# Altium footprint library buckconverter_pcb_lib.PcbLib: 8 footprints
Each footprint in its own frame and in the unit in brackets; x right, y up, seen from the top. Pads: shape width x height; smd on the part's side, far side on the other; paste and mask are expansions set on the pad; w line width, h text height; cw(c..) or ccw(c..) is an arc to the next point about the centre after c.
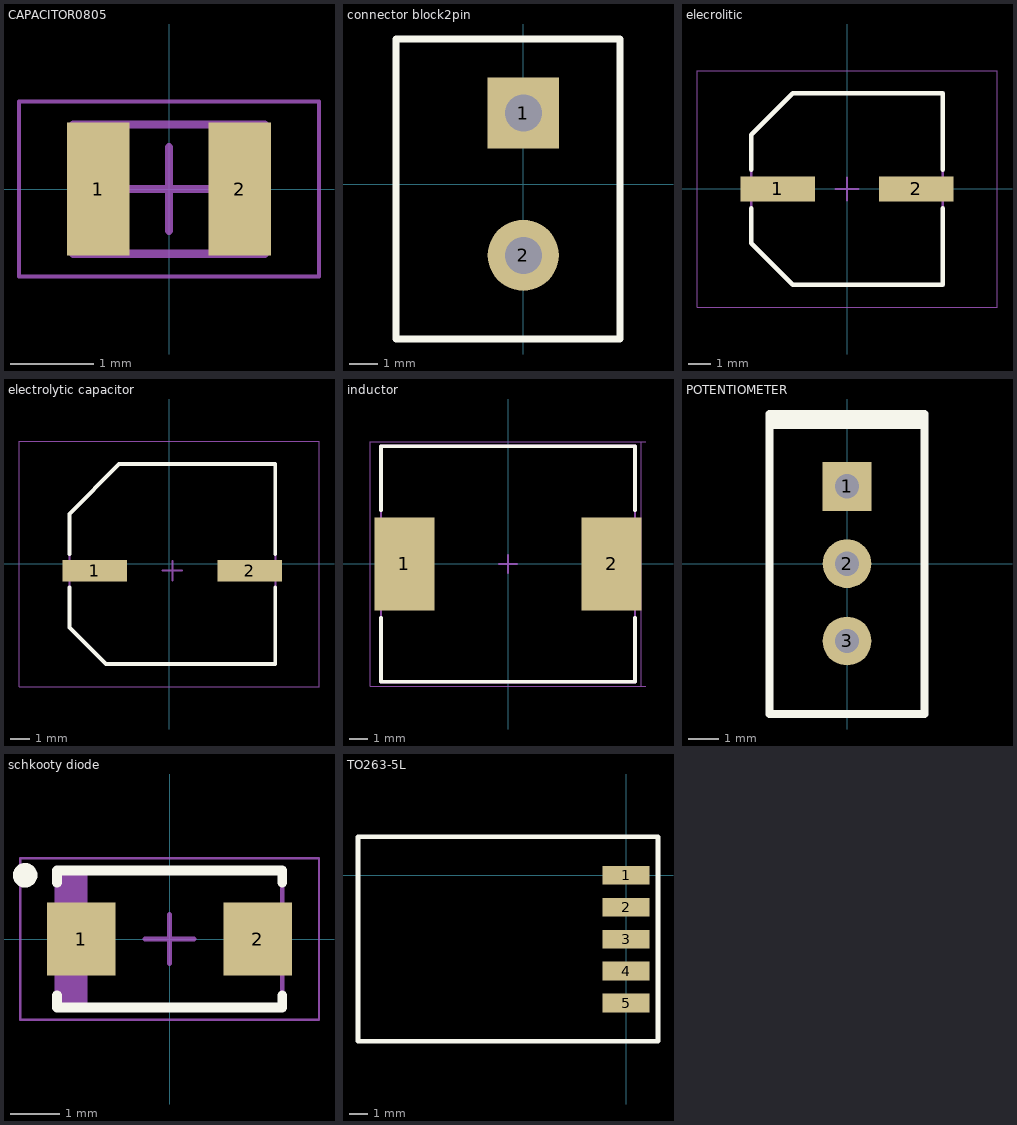
[diagram p0: the footprints below, top view; thin cyan lines are the x and y axes]

## CAPACITOR0805 [mm]
height 0.6
pads (2):
  rect 0.75x1.6 smd: 1(-0.85,0) 2(0.85,0)
Mechanical 13:
  lines w0.1: -1.15,-0.775 1.15,-0.775 1.15,0.775 -1.15,0.775 -1.15,-0.775
Mechanical 15:
  lines w0.05: -1.8,-1.05 1.8,-1.05 1.8,1.05 -1.8,1.05 -1.8,-1.05
  lines w0.1: -0.5,0 0.5,0 ; 0,-0.5 0,0.5
3D body: height 0.6, standoff 0, extent -0.52,-0.775 0.52,0.775
3D body: height 0.6, standoff 0, extent 0.52,-0.775 1.15,0.775
3D body: height 0.6, standoff 0, extent -1.15,-0.775 -0.52,0.775

## connector block2pin [mm] "terminalbox 2pin"
pads (2):
  rect 2.5x2.5 hole 1.3 mask-2539.97: 1(0,2.5)
  round 2.5 hole 1.3 mask-2539.97: 2(0,-2.5)
Top Overlay:
  lines w0.254: -4.474,-5.44 3.4,-5.44 3.4,5.101 -4.474,5.101 -4.474,-5.44
Top Solder:
  circle w1.3: c0,-2.5 r0.65
  region: -1.3,1.2 -1.3,3.8 1.3,3.8 1.3,1.2
  text ".Designator" at -3.88,-0.417 h0.7
Bottom Solder:
  circle w1.3: c0,-2.5 r0.65
  region: -1.3,1.2 -1.3,3.8 1.3,3.8 1.3,1.2
3D body "EBBA-02-C-SS-BU--3DModel-STEP-510211.STEP": height 3.2, standoff -11, extent -4.356,-5.504 3.244,4.996

## elecrolitic [mm] "A768KS227M1VLAE024"
height 12.5
pads (2):
  rect 3.3x1.1 smd: 1(-3.075,0) 2(3.075,0)
Top Overlay:
  lines w0.2: -4.25,-0.85 -4.25,-2.4 -2.4,-4.25 4.25,-4.25 4.25,-0.85 ; -4.25,0.85 -4.25,2.4 -2.4,4.25 4.25,4.25 4.25,0.85
Mechanical 13:
  lines w0.1: -4.25,-2.4 -4.25,2.4 -2.4,4.25 4.25,4.25 4.25,-4.25 -2.4,-4.25 -4.25,-2.4
Mechanical 15:
  lines w0.05: -6.65,-5.25 6.65,-5.25 6.65,5.25 -6.65,5.25 -6.65,-5.25
  lines w0.1: -0.5,0 0.5,0 ; 0,-0.5 0,0.5
3D body "A768KS227M1VLAE024.step": height -0.3, standoff -12.8, extent -4.6,-4.25 4.6,4.25

## electrolytic capacitor [mm] "A768MS107M1HLAE024.....100uF 50V Capacitor"
height 12.5
pads (2):
  rect 3.3x1.1 smd: 1(-3.78,-0.34) 2(4.12,-0.34)
Top Overlay:
  lines w0.2: -5.08,-1.19 -5.08,-3.24 -3.22,-5.1 5.42,-5.1 5.42,-1.19 ; -5.08,0.51 -5.08,2.56 -2.54,5.1 -0.465,5.1 3.005,5.1 5.42,5.1 5.42,0.51
Mechanical 13:
  lines w0.1: -5.08,-3.24 -5.08,2.56 -2.565,5.075 -2.38,5.1 3.403,5.1 4.421,5.1 5.42,5.1 5.42,-5.1 -3.22,-5.1 -5.08,-3.24
Mechanical 15:
  lines w0.05: -7.65,-6.25 7.65,-6.25 7.65,6.25 -7.65,6.25 -7.65,-6.25
  lines w0.1: -0.33,-0.34 0.67,-0.34 ; 0.17,-0.84 0.17,0.16
3D body "A768MS826M1JLAS027--3DModel-STEP-269445.STEP": height 0, standoff -12.7, extent -5.33,-5.15 5.67,5.15

## inductor [mm]
height 6.5
pads (2):
  rect 3.25x5.05 smd: 1(-5.625,0) 2(5.625,0)
Top Overlay:
  lines w0.2: -6.9,-2.925 -6.9,-6.4 6.9,-6.4 6.9,-2.925 ; -6.9,2.925 -6.9,6.4 6.9,6.4 6.9,2.925
Mechanical 1:
  lines w0.2: -6.9,-2.925 -6.9,-6.4 6.9,-6.4 6.9,-2.925 ; -6.9,2.925 -6.9,6.4 6.9,6.4 6.9,2.925
  text ".Designator" at -8.128,-0.127 h1.52
Mechanical 13:
  lines w0.1: -6.9,-6.4 -6.9,6.4 6.9,6.4 6.9,-6.4 -6.9,-6.4
Mechanical 15:
  lines w0.05: 7.239,-6.65 7.239,6.65 ; 7.493,-6.65 -7.471,-6.65 -7.471,-3.325 -7.471,3.325 -7.471,6.65 7.493,6.65
  lines w0.1: -0.5,0 0.5,0 ; 0,-0.5 0,0.5
3D body "CSAB1265A-100M--3DModel-STEP-740413.STEP": height -0.5, standoff -7, extent -6.9,-6.3 6.9,6.3

## POTENTIOMETER [mm] "3PIN...3296W-1-103RLF"
pads (3):
  rect 1.6x1.6 hole 0.8 mask-2539.97: 1(0,2.54)
  round 1.6 hole 0.8 mask-2539.97: 2(0,0) 3(0,-2.54)
Top Overlay:
  rectangle: -2.55,4.42 2.55,4.92
  lines w0.254: -2.55,-4.94 2.55,-4.94 ; -2.55,-4.94 -2.55,4.92 ; -2.55,-4.94 2.55,-4.94 ; -2.55,-4.94 -2.55,4.92 ; -2.55,4.92 2.55,4.92 ; -2.55,4.92 2.55,4.92 ; 2.55,-4.94 2.55,4.92 ; 2.55,-4.94 2.55,4.92
Top Solder:
  circle w0.85: c0,-2.54 r0.425
  circle w0.85: c0,0 r0.425
  region: -0.85,1.69 -0.85,3.39 0.85,3.39 0.85,1.69
Bottom Solder:
  circle w0.85: c0,-2.54 r0.425
  circle w0.85: c0,0 r0.425
  region: -0.85,1.69 -0.85,3.39 0.85,3.39 0.85,1.69
Mechanical 1:
  text ".Designator" at -1.353,-3.3 h0.7
3D body "3296W-FM1-502.STEP": height 6.72, standoff -12.55, extent -2.38,-4.775 2.45,4.755

## schkooty diode [mm] "SMA/DO-214AC"
height 2.62
pads (2):
  rect 1.4x1.5 smd: 1(-1.8,0) 2(1.8,0)
Top Overlay:
  circle w0.25: c-2.95,1.3 r0.125
  lines w0.2: -2.3,-1.15 -2.3,-1.4 2.3,-1.4 2.3,-1.15 ; -2.3,1.15 -2.3,1.4 2.3,1.4 2.3,1.15
Mechanical 13:
  rectangle: -2.3,-1.4 -1.681,1.4
  lines w0.1: -2.3,-1.4 2.3,-1.4 2.3,1.4 -2.3,1.4 -2.3,-1.4
Mechanical 15:
  lines w0.05: -3.05,-1.65 3.05,-1.65 3.05,1.65 -3.05,1.65 -3.05,-1.65
  lines w0.1: -0.5,0 0.5,0 ; 0,-0.5 0,0.5
3D body: height 2.62, standoff 0, extent -2.3,-1.4 2.3,1.4

## TO263-5L [mm] "LM2596S-ADJ-EV"
pads (5):
  rect 2.5x1 smd: 1(0,0) 2(0,-1.7) 3(0,-3.4) 4(0,-5.1) 5(0,-6.8)
Top Overlay:
  lines w0.254: -14.28,-8.84 1.7,-8.84 1.7,2.06 -14.28,2.06 -14.28,-8.84